# EAGLE library part CY8C29666_SSOP (library cypresspsoc_0.30)
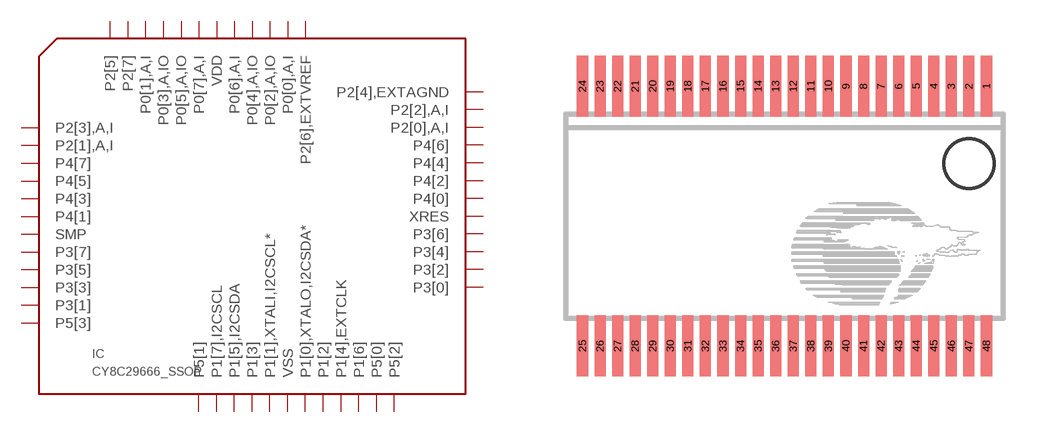
[diagram p9: symbol with the pads of SSOP48; footprint SSOP48]

Designator prefix IC

## CY8C29666_SSOP  [SSOP48]
1  P0[7],A,I
2  P0[5],A,IO
3  P0[3],A,IO
4  P0[1],A,I
5  P2[7]
6  P2[5]
7  P2[3],A,I
8  P2[1],A,I
9  P4[7]
10  P4[5]
11  P4[3]
12  P4[1]
13  SMP  pwr
14  P3[7]
15  P3[5]
16  P3[3]
17  P3[1]
18  P5[3]
19  P5[1]
20  P1[7],I2CSCL
21  P1[5],I2CSDA
22  P1[3]
23  P1[1],XTALI,I2CSCL*
24  VSS  pwr
25  P1[0],XTALO,I2CSDA*
26  P1[2]
27  P1[4],EXTCLK
28  P1[6]
29  P5[0]
30  P5[2]
31  P3[0]
32  P3[2]
33  P3[4]
34  P3[6]
35  XRES
36  P4[0]
37  P4[2]
38  P4[4]
39  P4[6]
40  P2[0],A,I
41  P2[2],A,I
42  P2[4],EXTAGND
43  P2[6],EXTVREF
44  P0[0],A,I
45  P0[2],A,IO
46  P0[4],A,IO
47  P0[6],A,I
48  VDD  pwr

## Footprint SSOP48 (pad centres in mm)
Shrunk Small Outline Package with 48 pins
smd 0.4 x 2.2: 1 6.859,4.573; 2 6.223,4.573; 3 5.588,4.573; 4 4.954,4.573; 5 4.319,4.573; 6 3.683,4.573; 7 3.049,4.573; 8 2.413,4.573; 9 1.778,4.573; 10 1.143,4.573; 11 0.508,4.573; 12 -0.127,4.573; 13 -0.762,4.573; 14 -1.397,4.573; 15 -2.033,4.573; 16 -2.667,4.573; 17 -3.303,4.573; 18 -3.938,4.573; 19 -4.572,4.573; 20 -5.207,4.573; 21 -5.843,4.573; 22 -6.478,4.573; 23 -7.112,4.573; 24 -7.747,4.573; 25 -7.747,-4.827; 26 -7.112,-4.827; 27 -6.478,-4.827; 28 -5.843,-4.827; 29 -5.207,-4.827; 30 -4.572,-4.827; 31 -3.938,-4.827; 32 -3.303,-4.827; 33 -2.667,-4.827; 34 -2.033,-4.827; 35 -1.397,-4.827; 36 -0.762,-4.827; 37 -0.127,-4.827; 38 0.508,-4.827; 39 1.143,-4.827; 40 1.778,-4.827; 41 2.413,-4.827; 42 3.049,-4.827; 43 3.683,-4.827; 44 4.319,-4.827; 45 4.954,-4.827; 46 5.588,-4.827; 47 6.223,-4.827; 48 6.859,-4.827